# Altium schematic symbol library WeAct-ESP32-S3-B.SchLib: 1 symbol
Pins are listed as number, name and electrical type; pins without a type are passive.

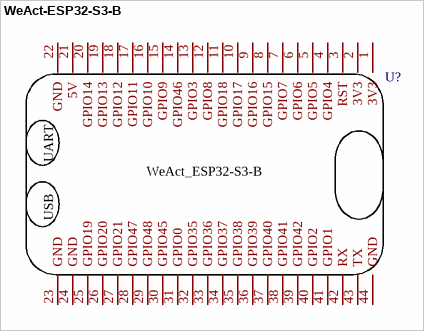
[diagram p0: symbol WeAct-ESP32-S3-B]

## WeAct-ESP32-S3-B
designator U?  (value not drawn)
Add into BOM: yes; Symbol: WeAct-ESP32-S3-B; Device: WeAct-ESP32-S3-B; Convert to PCB: yes
footprint WeAct-ESP32-S3-B
pins: 1 3V3, 2 3V3, 3 RST, 4 GPIO4, 5 GPIO5, 6 GPIO6, 7 GPIO7, 8 GPIO15, 9 GPIO16, 10 GPIO17, 11 GPIO18, 12 GPIO8, 13 GPIO3, 14 GPIO46, 15 GPIO9, 16 GPIO10, 17 GPIO11, 18 GPIO12, 19 GPIO13, 20 GPIO14, 21 5V, 22 GND, 23 GND, 24 GND, 25 GPIO19, 26 GPIO20, 27 GPIO21, 28 GPIO47, 29 GPIO48, 30 GPIO45, 31 GPIO0, 32 GPIO35, 33 GPIO36, 34 GPIO37, 35 GPIO38, 36 GPIO39, 37 GPIO40, 38 GPIO41, 39 GPIO42, 40 GPIO2, 41 GPIO1, 42 RX, 43 TX, 44 GND
text: UART; WeAct_ESP32-S3-B; USB